# Altium schematic symbol library PCB_Antenna_2_4GHz.SchLib: 1 symbol
Pins are listed as number, name and electrical type; pins without a type are passive.

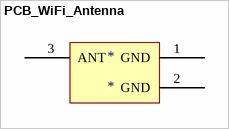
[diagram p0: symbol PCB_WiFi_Antenna]

## PCB_WiFi_Antenna
designator *
footprint PCBComponent_1
pins: 1 GND (power), 2 GND (power), 3 ANT (power)